# EAGLE library part A4988 (library _modules)
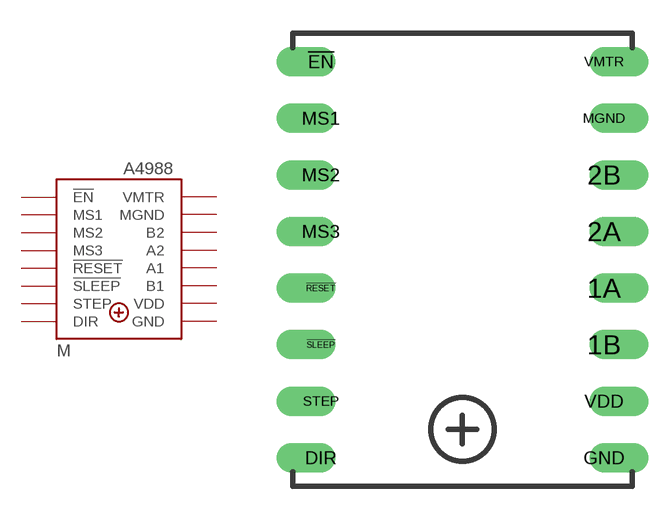
[diagram p4: symbol with the pads of A4988; footprint A4988]

Designator prefix M

## A4988  [A4988]
1A  A1  out
1B  B1  out
2A  A2  out
2B  B2  out
!EN  !EN  in
!RESET  !RESET  in
!SLEEP  !SLEEP  in
DIR  DIR  in
GND  GND  pwr
MGND  MGND  pwr
MS1  MS1  in
MS2  MS2  in
MS3  MS3  in
STEP  STEP  in
VDD  VDD  pwr
VMTR  VMTR  pwr

## Footprint A4988 (pad centres in mm)
drill 0.813 offset: 1A 12.7,7.62; 1B 12.7,5.08; 2A 12.7,10.16; 2B 12.7,12.7; !EN 0,17.78; !RESET 0,7.62; !SLEEP 0,5.08; DIR 0,0; GND 12.7,0; MGND 12.7,15.24; MS1 0,15.24; MS2 0,12.7; MS3 0,10.16; STEP 0,2.54; VDD 12.7,2.54; VMTR 12.7,17.78